# EAGLE library part PCA9536 (library guider-shield)
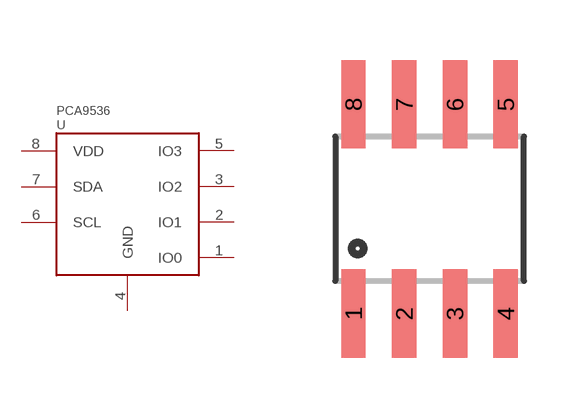
[diagram p3: symbol with the pads of SO08; footprint SO08]

Designator prefix U

## PCA9536-SO8  [SO08]
1  IO0
2  IO1
3  IO2
4  GND  in
5  IO3
6  SCL
7  SDA
8  VDD  in

## Footprint SO08 (pad centres in mm)
Small Outline Package Fits JEDEC packages (narrow SOIC-8)
smd 0.61 x 2.21: 1 -1.905,-2.616; 2 -0.635,-2.616; 3 0.635,-2.616; 4 1.905,-2.616; 5 1.905,2.616; 6 0.635,2.616; 7 -0.635,2.616; 8 -1.905,2.616